# Altium footprint library LinearRegulator.PcbLib: 5 footprints
Each footprint in its own frame and in the unit in brackets; x right, y up, seen from the top. Pads: shape width x height; smd on the part's side, far side on the other; paste and mask are expansions set on the pad; w line width, h text height; cw(c..) or ccw(c..) is an arc to the next point about the centre after c.
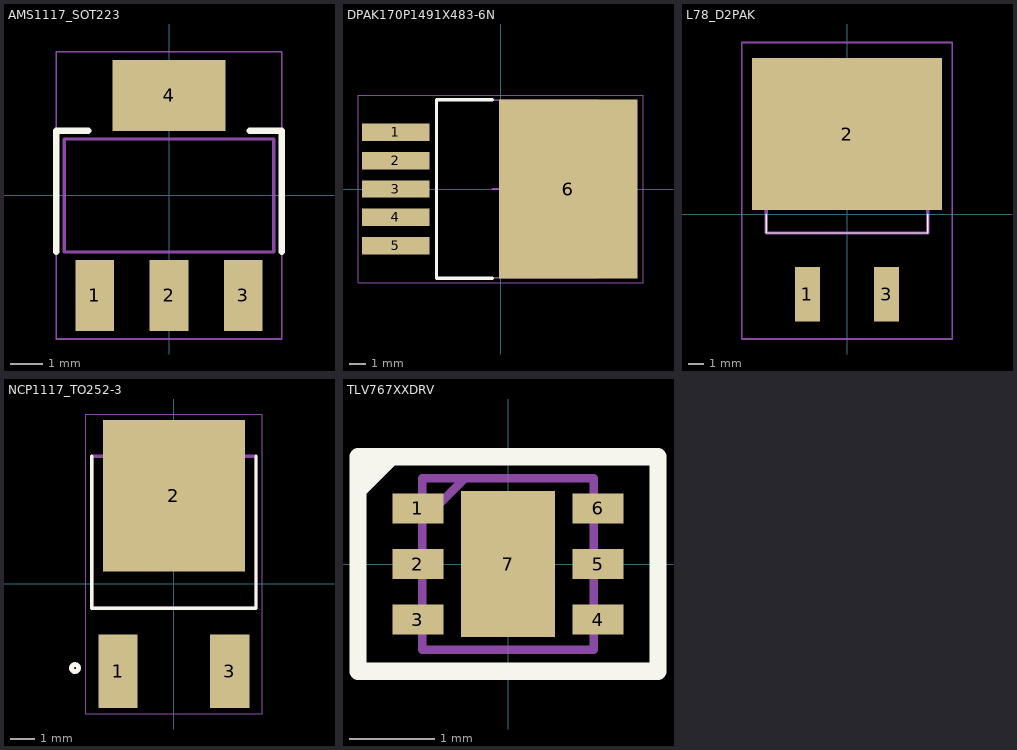
[diagram p0: the footprints below, top view; thin cyan lines are the x and y axes]

## AMS1117_SOT223 [mm]
pads (4):
  rect 1.2x2.2 smd: 1(-2.3,-3.1) 2(0,-3.1) 3(2.3,-3.1)
  rect 3.5x2.2 smd: 4(0,3.1)
Top Overlay:
  lines w0.2: -3.5,-1.75 -3.5,2 -2.5,2 ; 2.5,2 3.5,2 3.5,-1.75
Mechanical 13:
  lines w0.1: -3.25,-1.75 3.25,-1.75 3.25,1.75 -3.25,1.75 -3.25,-1.75
Mechanical 15:
  lines w0.05: -3.5,-4.45 3.5,-4.45 3.5,4.45 -3.5,4.45 -3.5,-4.45
3D body "step_temp.STEP": height 1.65, standoff 0, extent -3.25,-3.5 3.25,3.5

## DPAK170P1491X483-6N [mil] "D2-PAK, 6-Pads, Body 7.93x8.69mm (max), IPC Medium Density"
height 190.16
pads (6):
  rect 159x41 smd: 1(-248,133.86) 2(-248,66.93) 3(-248,0) 4(-248,-66.93) 5(-248,-133.86)
  rect 327x423 smd: 6(159.45,0)
Top Overlay:
  lines w7.87: -19.8,-210.63 -151.57,-210.63 -151.57,210.63 -19.8,210.63
Mechanical 13:
  lines w3.94: -151.57,-209.65 228.35,-209.65 228.35,209.65 -151.57,209.65 -151.57,-209.65
Mechanical 15:
  lines w1.97: -336.61,-221.46 336.61,-221.46 336.61,221.46 -336.61,221.46 -336.61,-221.46
  lines w3.94: -19.69,0 19.68,0 ; 0,-19.68 0,19.69
3D body "MIC29302WU.step": height 194.06, standoff -5.94, extent -302.8,-199.21 284.2,200.79

## L78_D2PAK [mm] "IC REG LINEAR 1.5A D2PAK"
pads (3):
  rect 1.6x3.5 smd: 1(-2.54,-5.138) 3(2.54,-5.138)
  rect 12.2x9.75 smd: 2(0,5.138)
Top Overlay:
  lines w0.1: -5.175,0 -5.175,-1.2 5.175,-1.208 5.175,0
Mechanical 13:
  lines w0.2: -5.175,-1.208 -5.175,3.192 5.175,3.192 5.175,-1.208 -5.175,-1.208
Mechanical 15:
  lines w0.1: -6.75,-8 -6.75,11.012 6.75,11.012 6.75,-8 -6.75,-8
3D body "L7805CD2T-TR.stp": height 4.6, standoff 0, extent -5.182,-6.557 5.182,9.335

## NCP1117_TO252-3 [mm]
pads (3):
  rect 1.6x3 smd: 1(-2.285,-3.59) 3(2.285,-3.59)
  rect 5.8x6.2 smd: 2(0,3.59)
Top Overlay:
  circle w0.2: c-4.05,-3.46 r0.141
  lines w0.127: -3.365,5.21 -3.365,-1.01 3.365,-1.01 3.365,5.21
Mechanical 13:
  lines w0.127: -3.365,-1.01 3.365,-1.01 3.365,5.21 -3.365,5.21 -3.365,-1.01
Mechanical 15:
  lines w0.05: -3.615,-5.34 -3.615,6.94 3.615,6.94 3.615,-5.34 -3.615,-5.34
3D body "NCP1117DT33G.STEP": height 2.39, standoff -0.13, extent -3.25,-3.953 3.25,5.953

## TLV767XXDRV [mm]
pads (7):
  rect 0.6x0.35 smd mask+0.03: 1(-1.05,0.65) 2(-1.05,0) 3(-1.05,-0.65) 4(1.05,-0.65) 5(1.05,0) 6(1.05,0.65)
  rect 1.1x1.7 smd mask+0.03: 7(0,0)
Top Overlay:
  lines w0.2: -1.741,0.864 -1.741,0.871 -1.377,1.234 -1.656,1.234 -1.696,1.194 -1.696,1.083 -1.687,1.074
  lines w0.203: -1.75,-1.25 -1.75,1.25 1.75,1.25 1.75,-1.25 -1.75,-1.25
Mechanical 13:
  lines w0.1: -1,0.5 -0.5,1 ; -1,-1 -1,1 1,1 1,-1 -1,-1
Mechanical 15:
  lines w0.05: -1.75,-1.3 -1.75,1.3 1.75,1.3 1.75,-1.3 -1.75,-1.3
3D body "TLV76733DRVR.stp": height 0.8, standoff 0, extent -1,-1 1,1